# EAGLE library part XC3SA50/TQ144 (library Xilinx)
Xilinx Spartan 3A 50 Die in a TQ144 Package
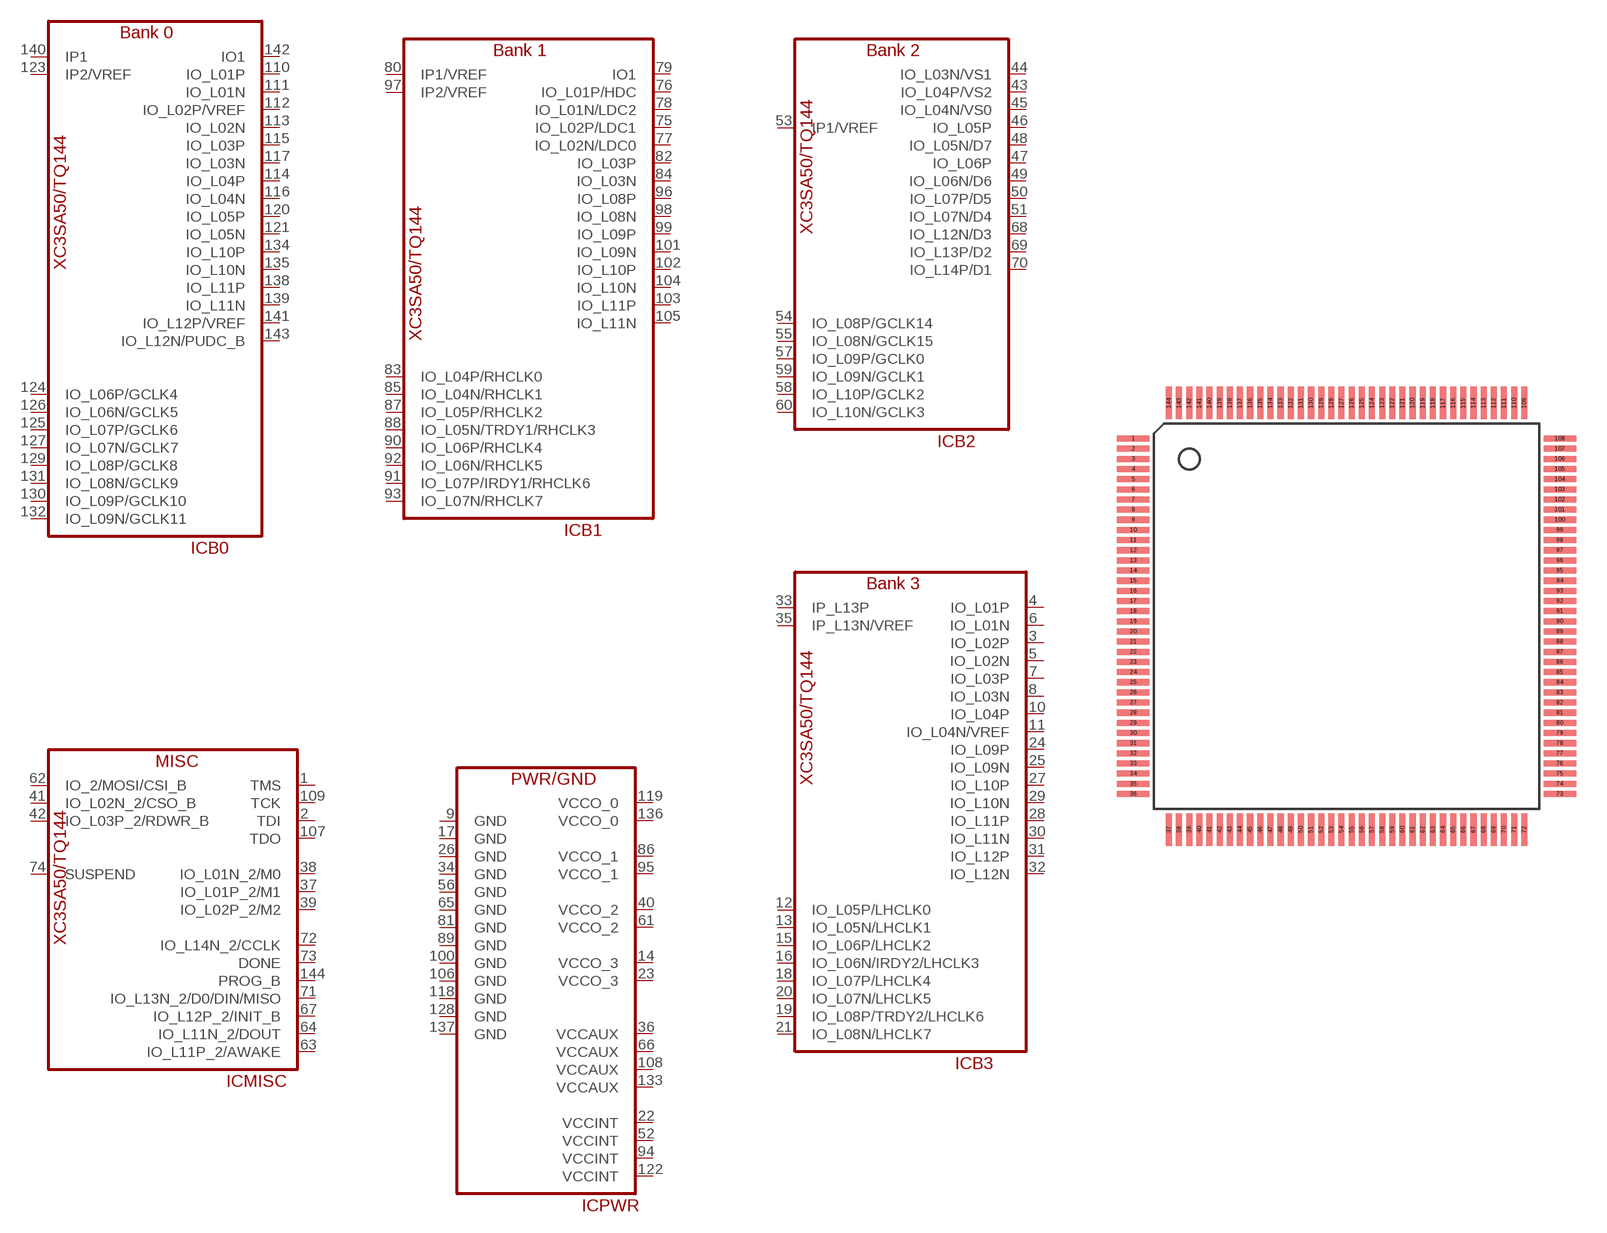
[diagram p44: symbol with the pads of TQ144; footprint TQ144]

Designator prefix IC; gates B0=XC3SA50/TQ144-B0 B1=XC3SA50/TQ144-B1 B2=XC3SA50/TQ144-B2 B3=XC3SA50/TQ144-B3 PWR=XC3SA50/TQ144-PWR MISC=XC3SA50/TQ144-MISC

## XC3SA50/TQ144  [TQ144]
1  MISC:TMS
2  MISC:TDI
3  B3:IO_L02P
4  B3:IO_L01P
5  B3:IO_L02N
6  B3:IO_L01N
7  B3:IO_L03P
8  B3:IO_L03N
9  PWR:GND  pwr
10  B3:IO_L04P
11  B3:IO_L04N/VREF
12  B3:IO_L05P/LHCLK0
13  B3:IO_L05N/LHCLK1
14  PWR:VCCO_3  pwr
15  B3:IO_L06P/LHCLK2
16  B3:IO_L06N/IRDY2/LHCLK3
17  PWR:GND  pwr
18  B3:IO_L07P/LHCLK4
19  B3:IO_L08P/TRDY2/LHCLK6
20  B3:IO_L07N/LHCLK5
21  B3:IO_L08N/LHCLK7
22  PWR:VCCINT  pwr
23  PWR:VCCO_3  pwr
24  B3:IO_L09P
25  B3:IO_L09N
26  PWR:GND  pwr
27  B3:IO_L10P
28  B3:IO_L11P
29  B3:IO_L10N
30  B3:IO_L11N
31  B3:IO_L12P
32  B3:IO_L12N
33  B3:IP_L13P  in
34  PWR:GND  pwr
35  B3:IP_L13N/VREF  in
36  PWR:VCCAUX  pwr
37  MISC:IO_L01P_2/M1
38  MISC:IO_L01N_2/M0
39  MISC:IO_L02P_2/M2  in
40  PWR:VCCO_2  pwr
41  MISC:IO_L02N_2/CSO_B
42  MISC:IO_L03P_2/RDWR_B
43  B2:IO_L04P/VS2
44  B2:IO_L03N/VS1
45  B2:IO_L04N/VS0
46  B2:IO_L05P
47  B2:IO_L06P
48  B2:IO_L05N/D7
49  B2:IO_L06N/D6
50  B2:IO_L07P/D5
51  B2:IO_L07N/D4
52  PWR:VCCINT  pwr
53  B2:IP1/VREF  in
54  B2:IO_L08P/GCLK14
55  B2:IO_L08N/GCLK15
56  PWR:GND  pwr
57  B2:IO_L09P/GCLK0
58  B2:IO_L10P/GCLK2
59  B2:IO_L09N/GCLK1
60  B2:IO_L10N/GCLK3
61  PWR:VCCO_2  pwr
62  MISC:IO_2/MOSI/CSI_B
63  MISC:IO_L11P_2/AWAKE
64  MISC:IO_L11N_2/DOUT
65  PWR:GND  pwr
66  PWR:VCCAUX  pwr
67  MISC:IO_L12P_2/INIT_B
68  B2:IO_L12N/D3
69  B2:IO_L13P/D2
70  B2:IO_L14P/D1
71  MISC:IO_L13N_2/D0/DIN/MISO
72  MISC:IO_L14N_2/CCLK
73  MISC:DONE
74  MISC:SUSPEND
75  B1:IO_L02P/LDC1
76  B1:IO_L01P/HDC
77  B1:IO_L02N/LDC0
78  B1:IO_L01N/LDC2
79  B1:IO1
80  B1:IP1/VREF  in
81  PWR:GND  pwr
82  B1:IO_L03P
83  B1:IO_L04P/RHCLK0
84  B1:IO_L03N
85  B1:IO_L04N/RHCLK1
86  PWR:VCCO_1  pwr
87  B1:IO_L05P/RHCLK2
88  B1:IO_L05N/TRDY1/RHCLK3
89  PWR:GND  pwr
90  B1:IO_L06P/RHCLK4
91  B1:IO_L07P/IRDY1/RHCLK6
92  B1:IO_L06N/RHCLK5
93  B1:IO_L07N/RHCLK7
94  PWR:VCCINT  pwr
95  PWR:VCCO_1  pwr
96  B1:IO_L08P
97  B1:IP2/VREF  in
98  B1:IO_L08N
99  B1:IO_L09P
100  PWR:GND  pwr
101  B1:IO_L09N
102  B1:IO_L10P
103  B1:IO_L11P
104  B1:IO_L10N
105  B1:IO_L11N
106  PWR:GND  pwr
107  MISC:TDO
108  PWR:VCCAUX  pwr
109  MISC:TCK
110  B0:IO_L01P
111  B0:IO_L01N
112  B0:IO_L02P/VREF
113  B0:IO_L02N
114  B0:IO_L04P
115  B0:IO_L03P
116  B0:IO_L04N
117  B0:IO_L03N
118  PWR:GND  pwr
119  PWR:VCCO_0  pwr
120  B0:IO_L05P
121  B0:IO_L05N
122  PWR:VCCINT  pwr
123  B0:IP2/VREF  in
124  B0:IO_L06P/GCLK4
125  B0:IO_L07P/GCLK6
126  B0:IO_L06N/GCLK5
127  B0:IO_L07N/GCLK7
128  PWR:GND  pwr
129  B0:IO_L08P/GCLK8
130  B0:IO_L09P/GCLK10
131  B0:IO_L08N/GCLK9
132  B0:IO_L09N/GCLK11
133  PWR:VCCAUX  pwr
134  B0:IO_L10P
135  B0:IO_L10N
136  PWR:VCCO_0  pwr
137  PWR:GND  pwr
138  B0:IO_L11P
139  B0:IO_L11N
140  B0:IP1  in
141  B0:IO_L12P/VREF
142  B0:IO1
143  B0:IO_L12N/PUDC_B
144  MISC:PROG_B

## Footprint TQ144 (pad centres in mm)
smd 1.6 x 0.3: 1 -10.5,8.75; 2 -10.5,8.25; 3 -10.5,7.75; 4 -10.5,7.25; 5 -10.5,6.75; 6 -10.5,6.25; 7 -10.5,5.75; 8 -10.5,5.25; 9 -10.5,4.75; 10 -10.5,4.25; 11 -10.5,3.75; 12 -10.5,3.25; 13 -10.5,2.75; 14 -10.5,2.25; 15 -10.5,1.75; 16 -10.5,1.25; 17 -10.5,0.75; 18 -10.5,0.25; 19 -10.5,-0.25; 20 -10.5,-0.75; 21 -10.5,-1.25; 22 -10.5,-1.75; 23 -10.5,-2.25; 24 -10.5,-2.75; 25 -10.5,-3.25; 26 -10.5,-3.75; 27 -10.5,-4.25; 28 -10.5,-4.75; 29 -10.5,-5.25; 30 -10.5,-5.75; 31 -10.5,-6.25; 32 -10.5,-6.75; 33 -10.5,-7.25; 34 -10.5,-7.75; 35 -10.5,-8.25; 36 -10.5,-8.75; 73 10.5,-8.75; 74 10.5,-8.25; 75 10.5,-7.75; 76 10.5,-7.25; 77 10.5,-6.75; 78 10.5,-6.25; 79 10.5,-5.75; 80 10.5,-5.25; 81 10.5,-4.75; 82 10.5,-4.25; 83 10.5,-3.75; 84 10.5,-3.25; 85 10.5,-2.75; 86 10.5,-2.25; 87 10.5,-1.75; 88 10.5,-1.25; 89 10.5,-0.75; 90 10.5,-0.25; 91 10.5,0.25; 92 10.5,0.75; 93 10.5,1.25; 94 10.5,1.75; 95 10.5,2.25; 96 10.5,2.75; 97 10.5,3.25; 98 10.5,3.75; 99 10.5,4.25; 100 10.5,4.75; 101 10.5,5.25; 102 10.5,5.75; 103 10.5,6.25; 104 10.5,6.75; 105 10.5,7.25; 106 10.5,7.75; 107 10.5,8.25; 108 10.5,8.75
smd 0.3 x 1.6: 37 -8.75,-10.5; 38 -8.25,-10.5; 39 -7.75,-10.5; 40 -7.25,-10.5; 41 -6.75,-10.5; 42 -6.25,-10.5; 43 -5.75,-10.5; 44 -5.25,-10.5; 45 -4.75,-10.5; 46 -4.25,-10.5; 47 -3.75,-10.5; 48 -3.25,-10.5; 49 -2.75,-10.5; 50 -2.25,-10.5; 51 -1.75,-10.5; 52 -1.25,-10.5; 53 -0.75,-10.5; 54 -0.25,-10.5; 55 0.25,-10.5; 56 0.75,-10.5; 57 1.25,-10.5; 58 1.75,-10.5; 59 2.25,-10.5; 60 2.75,-10.5; 61 3.25,-10.5; 62 3.75,-10.5; 63 4.25,-10.5; 64 4.75,-10.5; 65 5.25,-10.5; 66 5.75,-10.5; 67 6.25,-10.5; 68 6.75,-10.5; 69 7.25,-10.5; 70 7.75,-10.5; 71 8.25,-10.5; 72 8.75,-10.5; 109 8.75,10.5; 110 8.25,10.5; 111 7.75,10.5; 112 7.25,10.5; 113 6.75,10.5; 114 6.25,10.5; 115 5.75,10.5; 116 5.25,10.5; 117 4.75,10.5; 118 4.25,10.5; 119 3.75,10.5; 120 3.25,10.5; 121 2.75,10.5; 122 2.25,10.5; 123 1.75,10.5; 124 1.25,10.5; 125 0.75,10.5; 126 0.25,10.5; 127 -0.25,10.5; 128 -0.75,10.5; 129 -1.25,10.5; 130 -1.75,10.5; 131 -2.25,10.5; 132 -2.75,10.5; 133 -3.25,10.5; 134 -3.75,10.5; 135 -4.25,10.5; 136 -4.75,10.5; 137 -5.25,10.5; 138 -5.75,10.5; 139 -6.25,10.5; 140 -6.75,10.5; 141 -7.25,10.5; 142 -7.75,10.5; 143 -8.25,10.5; 144 -8.75,10.5